# Altium footprint library Connector - Header.PcbLib: 32 footprints (part 1 of 2)
Each footprint in its own frame and in the unit in brackets; x right, y up, seen from the top. Pads: shape width x height; smd on the part's side, far side on the other; paste and mask are expansions set on the pad; w line width, h text height; cw(c..) or ccw(c..) is an arc to the next point about the centre after c.
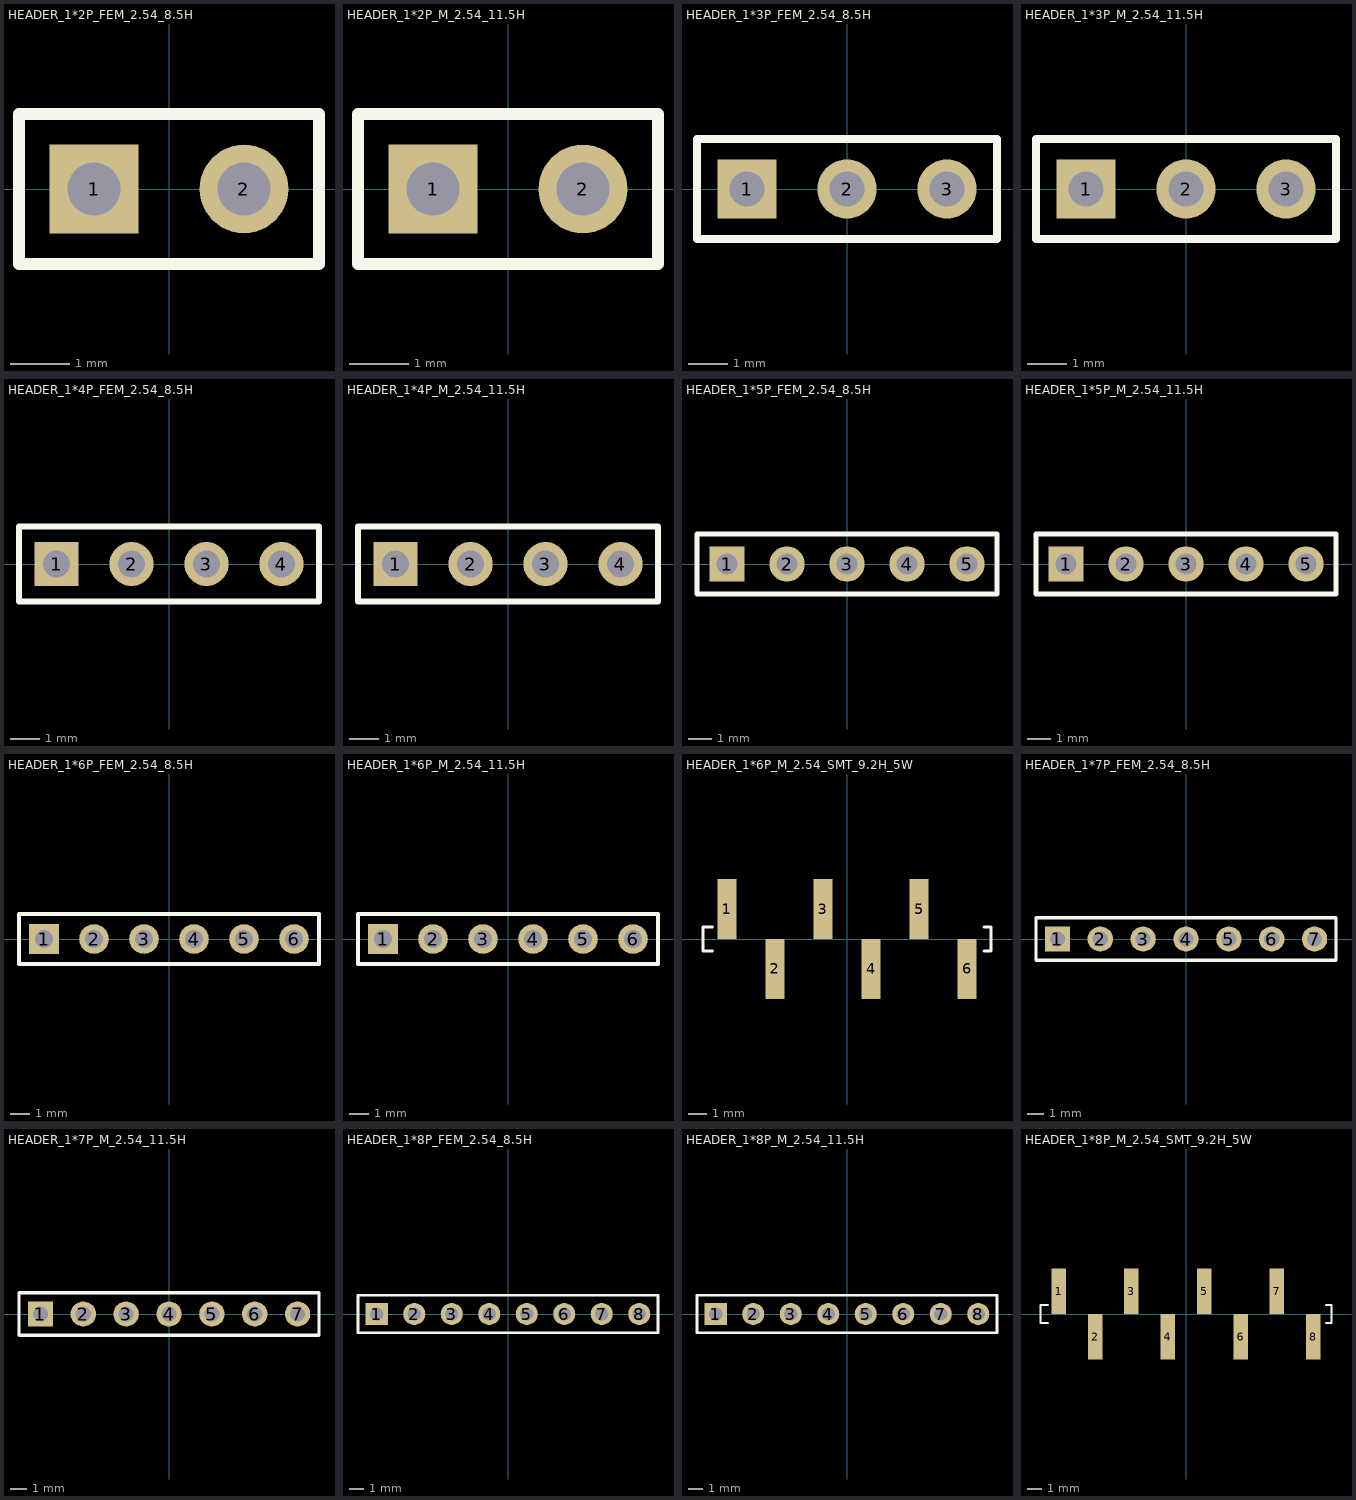
[diagram p0: the footprints below, top view; thin cyan lines are the x and y axes]

## HEADER_1*2P_FEM_2.54_8.5H [mm] "Connector; Header; 2 Position"
pads (2):
  rect 1.5x1.5 hole 0.9: 1(-1.27,0)
  round 1.5 hole 0.9: 2(1.27,0)
Top Overlay:
  lines w0.2: -2.54,-1.27 -2.54,1.27 2.54,1.27 2.54,-1.27 -2.54,-1.27
3D body "Header_Female_2Pin.STEP": height 6.02, standoff -3.1, extent -2.54,-1.27 2.54,1.27

## HEADER_1*2P_M_2.54_11.5H [mm] "Connector; Header; 2 Position"
pads (2):
  rect 1.5x1.5 hole 0.9: 1(-1.27,0)
  round 1.5 hole 0.9: 2(1.27,0)
Top Overlay:
  lines w0.2: -2.54,-1.27 -2.54,1.27 2.54,1.27 2.54,-1.27 -2.54,-1.27
3D body "Header_Male_2Pin.STEP": height 8.54, standoff -3, extent -2.54,-1.245 2.54,1.245

## HEADER_1*3P_FEM_2.54_8.5H [mm] "Connector; Header; 3 Position"
pads (3):
  rect 1.5x1.5 hole 0.9: 1(-2.54,0)
  round 1.5 hole 0.9: 2(0,0) 3(2.54,0)
Top Overlay:
  lines w0.2: -3.81,-1.27 3.81,-1.27 3.81,1.27 -3.81,1.27 -3.81,-1.27
3D body "Header_Female_3Pin.STEP": height 6.02, standoff -3.1, extent -3.81,-1.27 3.81,1.27

## HEADER_1*3P_M_2.54_11.5H [mm] "Connector; Header; 3 Position"
pads (3):
  rect 1.5x1.5 hole 0.9: 1(-2.54,0)
  round 1.5 hole 0.9: 2(0,0) 3(2.54,0)
Top Overlay:
  lines w0.2: -3.81,-1.27 -3.81,1.27 3.81,1.27 3.81,-1.27 -3.81,-1.27
3D body "Header_Male_3Pin.STEP": height 8.54, standoff -3, extent -3.81,-1.245 3.81,1.245

## HEADER_1*4P_FEM_2.54_8.5H [mm]
pads (4):
  rect 1.5x1.5 hole 0.9: 1(-3.81,0)
  round 1.5 hole 0.9: 2(-1.27,0) 3(1.27,0) 4(3.81,0)
Top Overlay:
  lines w0.2: -5.08,-1.27 5.08,-1.27 5.08,1.27 -5.08,1.27 -5.08,-1.27
3D body "Header_Female_4Pin.STEP": height 6.02, standoff -3.1, extent -5.08,-1.27 5.08,1.27

## HEADER_1*4P_M_2.54_11.5H [mm]
pads (4):
  rect 1.5x1.5 hole 0.9: 1(-3.81,0)
  round 1.5 hole 0.9: 2(-1.27,0) 3(1.27,0) 4(3.81,0)
Top Overlay:
  lines w0.2: -5.08,-1.27 5.08,-1.27 5.08,1.27 -5.08,1.27 -5.08,-1.27
3D body "User Library-Header_Male_4Pin.STEP": height 8.54, standoff -3, extent -5.08,-1.245 5.08,1.245

## HEADER_1*5P_FEM_2.54_8.5H [mm] "Connector; Header; 5 Position"
pads (5):
  rect 1.5x1.5 hole 0.9: 1(-5.08,0)
  round 1.5 hole 0.9: 2(-2.54,0) 3(0,0) 4(2.54,0) 5(5.08,0)
Top Overlay:
  lines w0.2: -6.35,-1.27 6.35,-1.27 6.35,1.27 -6.35,1.27 -6.35,-1.27
3D body "Header_Female_5Pin.STEP": height 6.02, standoff -3.1, extent -6.35,-1.27 6.35,1.27

## HEADER_1*5P_M_2.54_11.5H [mm] "Connector; Header; 5 Position"
pads (5):
  rect 1.5x1.5 hole 0.9: 1(-5.08,0)
  round 1.5 hole 0.9: 2(-2.54,0) 3(0,0) 4(2.54,0) 5(5.08,0)
Top Overlay:
  lines w0.2: -6.35,-1.27 6.35,-1.27 6.35,1.27 -6.35,1.27 -6.35,-1.27
3D body "User Library-Header_Male_5Pin.STEP": height 8.54, standoff -3, extent -6.35,-1.245 6.35,1.245

## HEADER_1*6P_FEM_2.54_8.5H [mm] "Connector; Header; 6 Position"
pads (6):
  rect 1.5x1.5 hole 0.9: 1(-6.35,0)
  round 1.5 hole 0.9: 2(-3.81,0) 3(-1.27,0) 4(1.27,0) 5(3.81,0) 6(6.35,0)
Top Overlay:
  lines w0.2: -7.62,-1.27 7.62,-1.27 7.62,1.27 -7.62,1.27 -7.62,-1.27

## HEADER_1*6P_M_2.54_11.5H [mm] "Connector; Header; 6 Position"
pads (6):
  rect 1.5x1.5 hole 0.9: 1(-6.35,0)
  round 1.5 hole 0.9: 2(-3.81,0) 3(-1.27,0) 4(1.27,0) 5(3.81,0) 6(6.35,0)
Top Overlay:
  lines w0.2: -7.62,-1.27 7.62,-1.27 7.62,1.27 -7.62,1.27 -7.62,-1.27
3D body "Header_Male_6Pin.STEP": height 8.54, standoff -3, extent -7.62,-1.245 7.62,1.245

## HEADER_1*6P_M_2.54_SMT_9.2H_5W [mm]
pads (6):
  rect 1.02x3.17 smd: 1(-6.35,1.585) 2(-3.81,-1.585) 3(-1.27,1.585) 4(1.27,-1.585) 5(3.81,1.585) 6(6.35,-1.585)
Top Overlay:
  lines w0.152: -7.112,-0.635 -7.62,-0.635 -7.62,0.635 -7.112,0.635 ; 7.239,-0.635 7.62,-0.635 7.62,0.635 7.239,0.635

## HEADER_1*7P_FEM_2.54_8.5H [mm] "Connector; Header; 7 Position"
pads (7):
  rect 1.5x1.5 hole 0.9: 1(-7.62,0)
  round 1.5 hole 0.9: 2(-5.08,0) 3(-2.54,0) 4(0,0) 5(2.54,0) 6(5.08,0) 7(7.62,0)
Top Overlay:
  lines w0.2: -8.89,-1.27 8.89,-1.27 8.89,1.27 -8.89,1.27 -8.89,-1.27

## HEADER_1*7P_M_2.54_11.5H [mm] "Connector; Header; 7 Position"
pads (7):
  rect 1.5x1.5 hole 0.9: 1(-7.62,0)
  round 1.5 hole 0.9: 2(-5.08,0) 3(-2.54,0) 4(0,0) 5(2.54,0) 6(5.08,0) 7(7.62,0)
Top Overlay:
  lines w0.2: -8.89,-1.27 8.89,-1.27 8.89,1.27 -8.89,1.27 -8.89,-1.27
3D body "Header_Male_7Pin.STEP": height 8.54, standoff -3, extent -8.89,-1.245 8.89,1.245

## HEADER_1*8P_FEM_2.54_8.5H [mm] "Connector; Header; 8 Position"
pads (8):
  rect 1.5x1.5 hole 0.9: 1(-8.89,0)
  round 1.5 hole 0.9: 2(-6.35,0) 3(-3.81,0) 4(-1.27,0) 5(1.27,0) 6(3.81,0) 7(6.35,0) 8(8.89,0)
Top Overlay:
  lines w0.2: -10.16,-1.27 10.16,-1.27 10.16,1.27 -10.16,1.27 -10.16,-1.27

## HEADER_1*8P_M_2.54_11.5H [mm] "Connector; Header; 8 Position"
pads (8):
  rect 1.5x1.5 hole 0.9: 1(-8.89,0)
  round 1.5 hole 0.9: 2(-6.35,0) 3(-3.81,0) 4(-1.27,0) 5(1.27,0) 6(3.81,0) 7(6.35,0) 8(8.89,0)
Top Overlay:
  lines w0.2: -10.16,-1.27 10.16,-1.27 10.16,1.27 -10.16,1.27 -10.16,-1.27
3D body "Header_Male_8Pin.STEP": height 8.54, standoff -3, extent -10.16,-1.245 10.16,1.245

## HEADER_1*8P_M_2.54_SMT_9.2H_5W [mm]
pads (8):
  rect 1.02x3.17 smd: 1(-8.89,1.585) 2(-6.35,-1.585) 3(-3.81,1.585) 4(-1.27,-1.585) 5(1.27,1.585) 6(3.81,-1.585) 7(6.35,1.585) 8(8.89,-1.585)
Top Overlay:
  lines w0.152: -9.652,-0.635 -10.16,-0.635 -10.16,0.635 -9.652,0.635 ; 9.779,-0.635 10.16,-0.635 10.16,0.635 9.779,0.635